# Altium schematic symbol library BQ25895-TEST.SchLib: 8 symbols
Pins are listed as number, name and electrical type; pins without a type are passive.

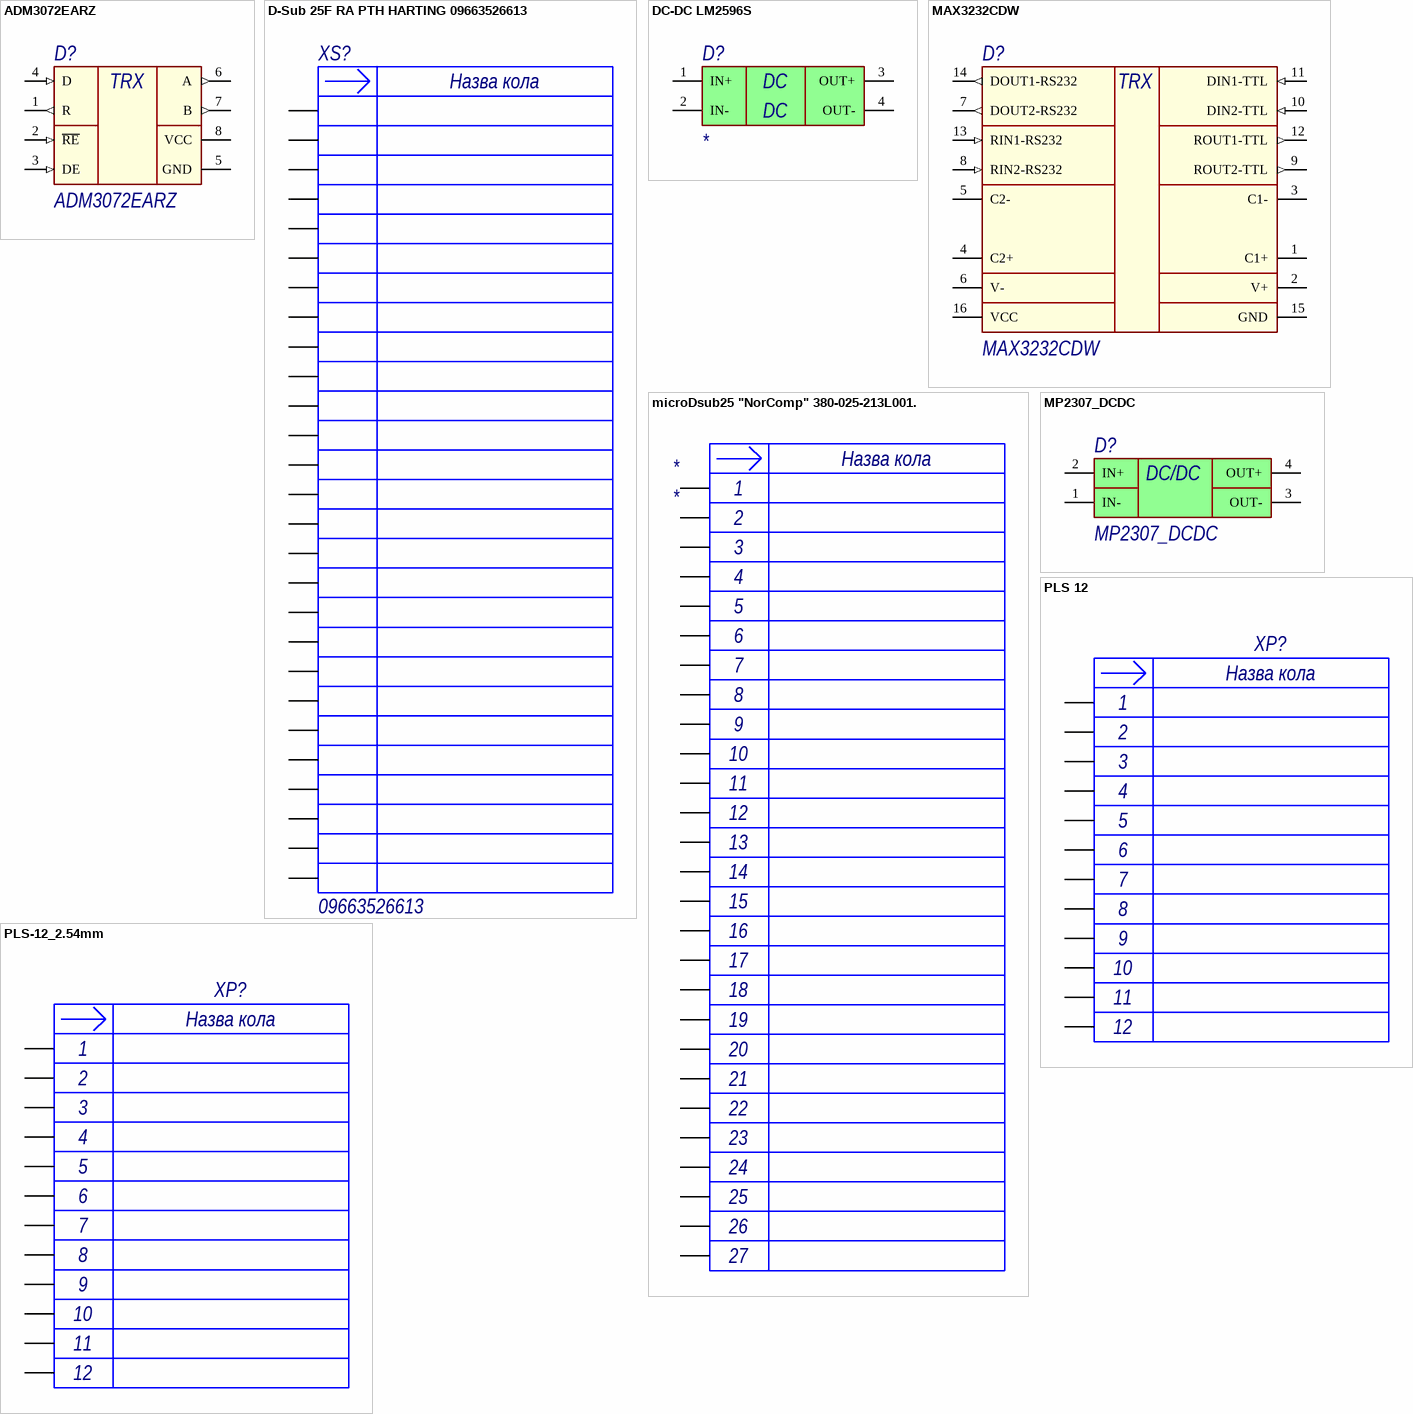
[diagram p0: symbols ADM3072EARZ to PLS-12_2.54mm]

## ADM3072EARZ
designator D?
3.3 V, ±15 kV ESD-Protected, Half- and Full-Duplex, RS-485/RS-422 Transceivers; Manufacturer: Analog Devices; Type: Мікросхема; Name: ADM3072EARZ [Analog Devices]; Component Function: RS-485; Package: 8-SOIC [3.9mm]; Mount: SMT; Min Operating Temperature: -40°C; Max Operating Temperature: +85°C; Number of Pins: 8; Part Number: ADM3072EARZ
footprint TI_D0008A_8-SOIC_SOIC127P600X175-8N (SOIC, 8-Leads, Body 4.90x3.90mm, Pitch 1.27mm, IPC Medium Density)
pins: 1 R (out), 2 ~{RE} (in), 3 DE (in), 4 D (in), 5 GND (power), 6 A (out), 7 B (out), 8 VCC (power)
text: TRX

## D-Sub 25F RA PTH HARTING 09663526613
designator XS?, comment 09663526613
D-Sub Receptacle 25 Position Through-Hole Right-Angle; Manufacturer: HARTING; Name: D-Sub Receptacle 25 Position Through-Hole Right-Angle 09663526613 [HARTING]; System: Connector; Max Operating Temperature: +125°C; Min Operating Temperature: -55°C; Mount: PTH; Number of Pins: 25; Type: Вилка; Part Number: 09663526613; ComponentLink1Description: Datasheet Link; ComponentLink1URL: *; Component Function: *
footprint D-Sub 25F RA PTH HARTING 09663526613
pins: 1, 2, 3, 4, 5, 6, 7, 8, 9, 10, 11, 12, 13, 14, 15, 16, 17, 18, 19, 20, 21, 22, 23, 24, 25, 26 E, 27 E
text: Назва кола

## DC-DC LM2596S
designator D?
Імпульсний знижувальний регульований стабілізатор напруги MP2307 China
pins: 1 IN+, 2 IN-, 3 OUT+, 4 OUT-
text: DC

## MAX3232CDW
designator D?
MAX3232 3-V to 5.5-V Multichannel RS-232 Line Driver and Receiver With ±15-kV ESD Protection 16-SOIC [7.5mm]; Manufacturer: Maxim Integrated; Type: Мікросхема; Name: MAX3232CDW [Maxim Integrated]; Package: 16-SOIC [7.5mm]; Mount: SMT; Min Operating Temperature: -40°C; Max Operating Temperature: +85°C; Number of Pins: 16; Component Function: RS-232; Part Number: MAX3232CDW
footprint AD_RW-16_SOIC127P1030X265-16N (SOIC, 16-Leads, Body 10,30x7,50mm, Pitch 1,27mm, IPC Medium Density)
pins: 1 C1+, 2 V+, 3 C1-, 4 C2+, 5 C2-, 6 V-, 7 DOUT2-RS232 (out), 8 RIN2-RS232 (in), 9 ROUT2-TTL (out), 10 DIN2-TTL (in), 11 DIN1-TTL (in), 12 ROUT1-TTL (out), 13 RIN1-RS232 (in), 14 DOUT1-RS232 (out), 15 GND (power), 16 VCC (power)
text: TRX

## microDsub25 "NorComp" 380-025-213L001.
designator *
pins: 1, 2, 3, 4, 5, 6, 7, 8, 9, 10, 11, 12, 13, 14, 15, 16, 17, 18, 19, 20, 21, 22, 23, 24, 25, 26, 27
text: Назва кола

## MP2307_DCDC
designator D?
MP2307 DCDC Module; Manufacturer: Analog Devices; Type: Мікросхема; Name: MP2307_DCDC [Analog Devices]; Component Function: RS-485; Package: 8-SOIC [3.9mm]; Mount: SMT; Min Operating Temperature: -40°C; Max Operating Temperature: +85°C; Number of Pins: 8; Part Number: MP2307_DCDC
footprint MP2307 (SOIC, 16-Leads, Body 10,30x7,50mm, Pitch 1,27mm, IPC Medium Density)
pins: 1 IN-, 2 IN+, 3 OUT-, 4 OUT+
text: DC/DC

## PLS 12
designator XP?, comment 0901311086  (value not drawn)
Connector Header Through Hole, Vertical 12 position 2.54mm; Manufacturer: Molex; Part Number: 0702461201; Name: Connector Header Through Hole, Vertical 12 position 2.54mm 0702461201 [Molex]; Max Operating Temperature: +125°C; Min Operating Temperature: -55°C; Mount: PTH; Number of Pins: 12; Type: Вилка; ComponentLink1Description: Datasheet Link; ComponentLink1URL: *; Mated with (Housing PN): *; System: Connector; Component Function: *
footprint CON_901311086_MOL
pins: 1, 2, 3, 4, 5, 6, 7, 8, 9, 10, 11, 12
text: Назва кола

## PLS-12_2.54mm
designator XP?  (value not drawn)
Manufacturer: Molex; Part Number: 0702461201; Name: PLS-12_2.54mm 0702461201 [Molex]; System: Connector; Max Operating Temperature: +125°C; Min Operating Temperature: -55°C; Mount: PTH; Number of Pins: 12; Type: Вилка; ComponentLink1Description: Datasheet Link; ComponentLink1URL: *; Mated with (Housing PN): *; Component Function: *
footprint PLS-12_2.54mm
pins: 1, 2, 3, 4, 5, 6, 7, 8, 9, 10, 11, 12
text: Назва кола